# EAGLE library part MSS3-V-T_R (library switches)
Slide Switches Slide Type 1P2T (1.4mm height) Source: Datasheet <http://www.dip.com.tw/en/en-product-information/en-switch005/item/download/2643_3624e6da26abd0f9c3465d69564276ea>
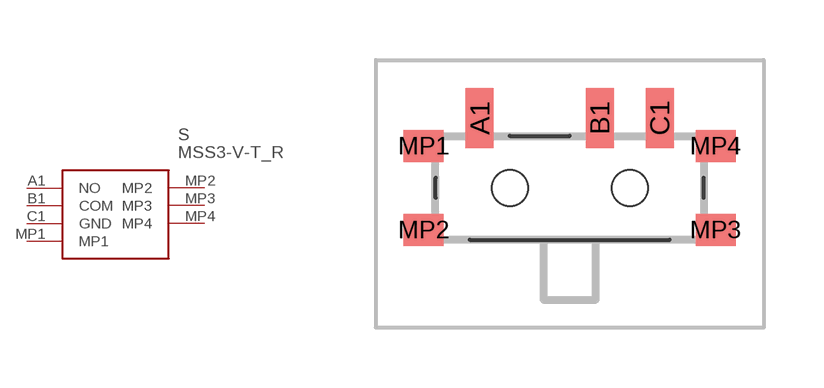
[diagram p0: symbol with the pads of MSS3VTR; footprint MSS3VTR]

Designator prefix S

## MSS3-V-T_R (DESCRIPTION: Slide Switches Slide Type 1P2T (1.4mm height); HEIGHT: 1.4mm; MANUFACTURER_NAME: Diptronics; MANUFACTURER_PART_NUMBER: MSS3-V-T/R; MOUSER_PART_NUMBER: 113-MSS3-V-T/R; MOUSER_PRICE-STOCK: https://www.mouser.com/Search/Refine.aspx?Keyword=113-MSS3-V-T%2FR)  [MSS3VTR]
A1  NO
B1  COM
C1  GND
MP1  MP1
MP2  MP2
MP3  MP3
MP4  MP4

## Footprint MSS3VTR (pad centres in mm)
MSS3-V-T/R-1
smd 0.7 x 1.5: A1 -2.25,3.05; B1 0.75,3.05; C1 2.25,3.05
smd 1 x 0.8: MP1 -3.65,2.35; MP2 -3.65,0.25; MP3 3.65,0.25; MP4 3.65,2.35
hole 0.9 at -1.5,1.3
hole 0.9 at 1.5,1.3